# EAGLE library part DC-DC-STEP-UP-5V (library acs712)
DC/DC Step-Up Converter
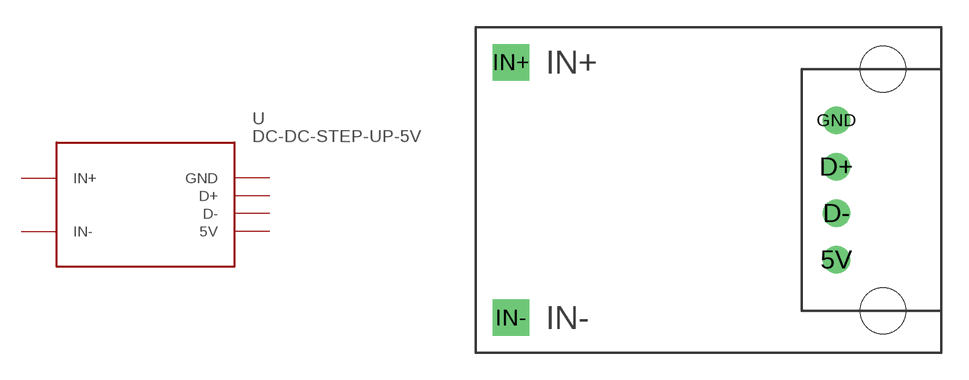
[diagram p21: symbol with the pads of DC-DC-STEP-UP-5V; footprint DC-DC-STEP-UP-5V]

Designator prefix -

## DC-DC-STEP-UP-5V  [DC-DC-STEP-UP-5V]
5V  5V
D+  D+
D-  D-
GND  GND
IN+  IN+  pwr
IN-  IN-  pwr

## Footprint DC-DC-STEP-UP-5V (pad centres in mm)
DC/DC Step-Up Converter
drill 1: 5V 6.985,-3.81; D+ 6.985,1.27; D- 6.985,-1.27; GND 6.985,3.81
drill 1 pad 2 square: IN+ -10.795,6.985; IN- -10.795,-6.985
hole 2.5 at 9.525,6.604
hole 2.5 at 9.525,-6.604